# Altium integrated library Capacitor - Aluminium TH.IntLib: 4591 symbols (part 51 of 68)
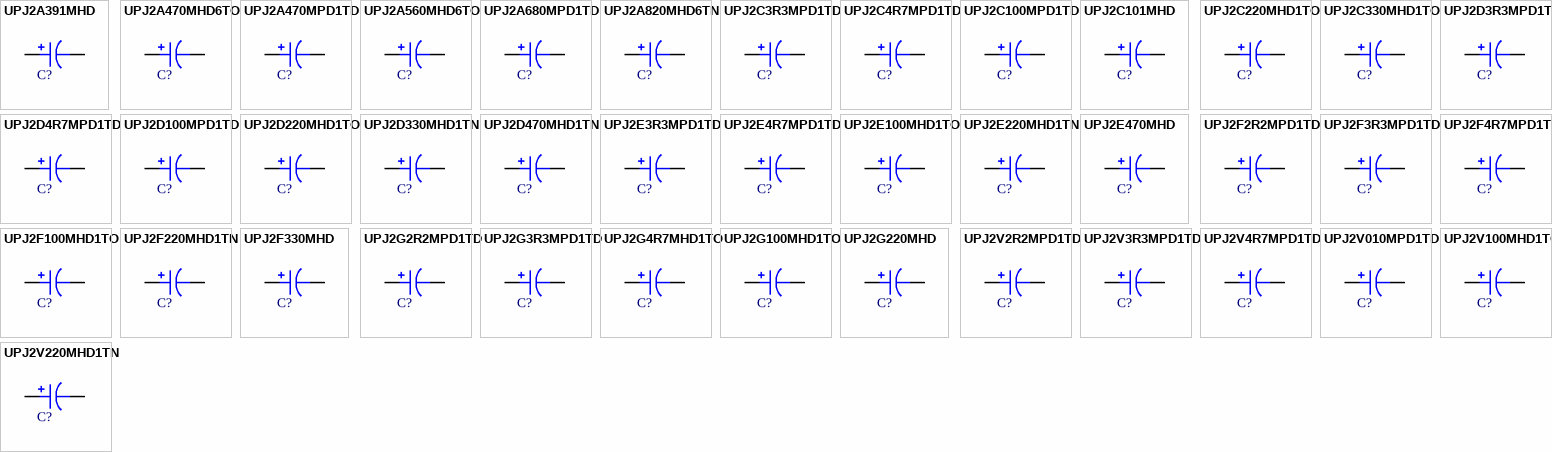
[diagram p164: symbols UPJ2A391MHD to UPJ2V220MHD1TN]

## UPJ2A391MHD
designator C?, comment 390uF  (value not drawn)
CAP ALUM 390UF 20% 100V RADIAL; Part Number: UPJ2A391MHD; Manufacturer: Nichicon; TemperatureRange: -55C ~ 105C; Type: Polar; Ripple Current: 1.34A @ 120Hz; Impedance: 53 mOhm; Value: 390uF; PartId: 27324; Supplier 1: Digi-Key; Supplier Part Number 1: 493-5566-ND; ComponentLink1Description: Datasheet; ComponentLink1URL: http://nichicon-us.com/english/products/pdfs/e-upj.pdf; ComponentLink2Description: Digi-Key Listing; ComponentLink2URL: https://www.digikey.com/product-detail/en/nichicon/UPJ2A391MHD/493-5566-ND/2599370; Tolerance: 20%; Voltage: 100V; Price: 1.54; Device Package: Radial, Can, 16mm
footprint CAP AL TH D16 L7.5 H37
pins: 1, 2

## UPJ2A470MHD6TO
designator C?, comment 47uF  (value not drawn)
CAP ALUM 47UF 20% 100V RADIAL; Part Number: UPJ2A470MHD6TO; Manufacturer: Nichicon; TemperatureRange: -55C ~ 105C; Type: Polar; Ripple Current: 239mA @ 120Hz; Impedance: 310 mOhm; Value: 47uF; PartId: 22743; Supplier 1: Digi-Key; Supplier Part Number 1: 493-5137-1-ND; ComponentLink1Description: Datasheet; ComponentLink1URL: http://nichicon-us.com/english/products/pdfs/e-upj.pdf; ComponentLink2Description: Digi-Key Listing; ComponentLink2URL: https://www.digikey.com/product-detail/en/nichicon/UPJ2A470MHD6TO/493-5137-1-ND/3129474; Tolerance: 20%; Voltage: 100V; Price: 0; Device Package: Radial, Can, 12.5mm
footprint CAP AL TH D12.5 L5 H16.5
pins: 1, 2

## UPJ2A470MPD1TD
designator C?, comment 47uF  (value not drawn)
CAP ALUM 47UF 20% 100V RADIAL; Part Number: UPJ2A470MPD1TD; Manufacturer: Nichicon; TemperatureRange: -55C ~ 105C; Type: Polar; Ripple Current: 252mA @ 120Hz; Impedance: 280 mOhm; Value: 47uF; PartId: 25748; Supplier 1: Digi-Key; Supplier Part Number 1: 493-11915-3-ND; ComponentLink1Description: Datasheet; ComponentLink1URL: http://nichicon-us.com/english/products/pdfs/e-upj.pdf; ComponentLink2Description: Digi-Key Listing; ComponentLink2URL: https://www.digikey.com/product-detail/en/nichicon/UPJ2A470MPD1TD/493-11915-3-ND/4321058; Tolerance: 20%; Voltage: 100V; Price: 0.2004; Device Package: Radial, Can, 10mm
footprint CAP AL TH D10 L5 H22
pins: 1, 2

## UPJ2A560MHD6TO
designator C?, comment 56uF  (value not drawn)
CAP ALUM 56UF 20% 100V RADIAL; Part Number: UPJ2A560MHD6TO; Manufacturer: Nichicon; TemperatureRange: -55C ~ 105C; Type: Polar; Ripple Current: 258mA @ 120Hz; Impedance: 270 mOhm; Value: 56uF; PartId: 22744; Supplier 1: Digi-Key; Supplier Part Number 1: 493-5139-1-ND; ComponentLink1Description: Datasheet; ComponentLink1URL: http://nichicon-us.com/english/products/pdfs/e-upj.pdf; ComponentLink2Description: Digi-Key Listing; ComponentLink2URL: https://www.digikey.com/product-detail/en/nichicon/UPJ2A560MHD6TO/493-5139-1-ND/3129476; Tolerance: 20%; Voltage: 100V; Price: 0; Device Package: Radial, Can, 12.5mm
footprint CAP AL TH D12.5 L5 H16.5
pins: 1, 2

## UPJ2A680MPD1TD
designator C?, comment 68uF  (value not drawn)
CAP ALUM 68UF 20% 100V RADIAL; Part Number: UPJ2A680MPD1TD; Manufacturer: Nichicon; TemperatureRange: -55C ~ 105C; Type: Polar; Ripple Current: 326mA @ 120Hz; Impedance: 210 mOhm; Value: 68uF; PartId: 26014; Supplier 1: Digi-Key; Supplier Part Number 1: 493-5140-3-ND; ComponentLink1Description: Datasheet; ComponentLink1URL: http://nichicon-us.com/english/products/pdfs/e-upj.pdf; ComponentLink2Description: Digi-Key Listing; ComponentLink2URL: https://www.digikey.com/product-detail/en/nichicon/UPJ2A680MPD1TD/493-5140-3-ND/3130145; Tolerance: 20%; Voltage: 100V; Price: 0.3068; Device Package: Radial, Can, 10mm
footprint CAP AL TH D10 L5 H30
pins: 1, 2

## UPJ2A820MHD6TN
designator C?, comment 82uF  (value not drawn)
CAP ALUM 82UF 20% 100V RADIAL; Part Number: UPJ2A820MHD6TN; Manufacturer: Nichicon; TemperatureRange: -55C ~ 105C; Type: Polar; Ripple Current: 433mA @ 120Hz; Impedance: 190 mOhm; Value: 82uF; PartId: 26250; Supplier 1: Digi-Key; Supplier Part Number 1: 493-5142-3-ND; ComponentLink1Description: Datasheet; ComponentLink1URL: http://nichicon-us.com/english/products/pdfs/e-upj.pdf; ComponentLink2Description: Digi-Key Listing; ComponentLink2URL: https://www.digikey.com/product-detail/en/nichicon/UPJ2A820MHD6TN/493-5142-3-ND/3130147; Tolerance: 20%; Voltage: 100V; Price: 0.5226; Device Package: Radial, Can, 16mm
footprint CAP AL TH D16 L7.5 H16.5
pins: 1, 2

## UPJ2C3R3MPD1TD
designator C?, comment 3.3uF  (value not drawn)
CAP ALUM 3.3UF 20% 160V RADIAL; Part Number: UPJ2C3R3MPD1TD; Manufacturer: Nichicon; TemperatureRange: -40C ~ 105C; Type: Polar; Ripple Current: 50mA @ 120Hz; Value: 3.3uF; PartId: 24589; Supplier 1: Digi-Key; Supplier Part Number 1: 493-5147-3-ND; ComponentLink1Description: Datasheet; ComponentLink1URL: http://nichicon-us.com/english/products/pdfs/e-upj.pdf; ComponentLink2Description: Digi-Key Listing; ComponentLink2URL: https://www.digikey.com/product-detail/en/nichicon/UPJ2C3R3MPD1TD/493-5147-3-ND/3130152; Tolerance: 20%; Voltage: 160V; Price: 0.1712; Device Package: Radial, Can, 10mm
footprint CAP AL TH D10 L5 H14.5
pins: 1, 2

## UPJ2C4R7MPD1TD
designator C?, comment 4.7uF  (value not drawn)
CAP ALUM 4.7UF 20% 160V RADIAL; Part Number: UPJ2C4R7MPD1TD; Manufacturer: Nichicon; TemperatureRange: -40C ~ 105C; Type: Polar; Ripple Current: 57mA @ 120Hz; Value: 4.7uF; PartId: 24590; Supplier 1: Digi-Key; Supplier Part Number 1: 493-11862-3-ND; ComponentLink1Description: Datasheet; ComponentLink1URL: http://nichicon-us.com/english/products/pdfs/e-upj.pdf; ComponentLink2Description: Digi-Key Listing; ComponentLink2URL: https://www.digikey.com/product-detail/en/nichicon/UPJ2C4R7MPD1TD/493-11862-3-ND/4321005; Tolerance: 20%; Voltage: 160V; Price: 0.1718; Device Package: Radial, Can, 10mm
footprint CAP AL TH D10 L5 H14.5
pins: 1, 2

## UPJ2C100MPD1TD
designator C?, comment 10uF  (value not drawn)
CAP ALUM 10UF 20% 160V RADIAL; Part Number: UPJ2C100MPD1TD; Manufacturer: Nichicon; TemperatureRange: -40C ~ 105C; Type: Polar; Ripple Current: 90mA @ 120Hz; Value: 10uF; PartId: 25076; Supplier 1: Digi-Key; Supplier Part Number 1: 493-5146-3-ND; ComponentLink1Description: Datasheet; ComponentLink1URL: http://nichicon-us.com/english/products/pdfs/e-upj.pdf; ComponentLink2Description: Digi-Key Listing; ComponentLink2URL: https://www.digikey.com/product-detail/en/nichicon/UPJ2C100MPD1TD/493-5146-3-ND/3130151; Tolerance: 20%; Voltage: 160V; Price: 0.232; Device Package: Radial, Can, 10mm
footprint CAP AL TH D10 L5 H17.5
pins: 1, 2

## UPJ2C101MHD
designator C?, comment 100uF  (value not drawn)
CAP ALUM 100UF 20% 160V RADIAL; Part Number: UPJ2C101MHD; Manufacturer: Nichicon; TemperatureRange: -40C ~ 105C; Type: Polar; Ripple Current: 330mA @ 120Hz; Value: 100uF; PartId: 27328; Supplier 1: Digi-Key; Supplier Part Number 1: 493-5569-ND; ComponentLink1Description: Datasheet; ComponentLink1URL: http://nichicon-us.com/english/products/pdfs/e-upj.pdf; ComponentLink2Description: Digi-Key Listing; ComponentLink2URL: https://www.digikey.com/product-detail/en/nichicon/UPJ2C101MHD/493-5569-ND/2599390; Tolerance: 20%; Voltage: 160V; Price: 1.58; Device Package: Radial, Can, 16mm
footprint CAP AL TH D16 L7.5 H37
pins: 1, 2

## UPJ2C220MHD1TO
designator C?, comment 22uF  (value not drawn)
CAP ALUM 22UF 20% 160V RADIAL; Part Number: UPJ2C220MHD1TO; Manufacturer: Nichicon; TemperatureRange: -40C ~ 105C; Type: Polar; Ripple Current: 140mA @ 120Hz; Value: 22uF; PartId: 23159; Supplier 1: Digi-Key; Supplier Part Number 1: 493-12074-3-ND; ComponentLink1Description: Datasheet; ComponentLink1URL: http://nichicon-us.com/english/products/pdfs/e-upj.pdf; ComponentLink2Description: Digi-Key Listing; ComponentLink2URL: https://www.digikey.com/product-detail/en/nichicon/UPJ2C220MHD1TO/493-12074-3-ND/4321217; Tolerance: 20%; Voltage: 160V; Price: 0.3258; Device Package: Radial, Can, 12.5mm
footprint CAP AL TH D12.5 L5 H22
pins: 1, 2

## UPJ2C330MHD1TO
designator C?, comment 33uF  (value not drawn)
CAP ALUM 33UF 20% 160V RADIAL; Part Number: UPJ2C330MHD1TO; Manufacturer: Nichicon; TemperatureRange: -40C ~ 105C; Type: Polar; Ripple Current: 175mA @ 120Hz; Value: 33uF; PartId: 24067; Supplier 1: Digi-Key; Supplier Part Number 1: 493-12226-1-ND; ComponentLink1Description: Datasheet; ComponentLink1URL: http://nichicon-us.com/english/products/pdfs/e-upj.pdf; ComponentLink2Description: Digi-Key Listing; ComponentLink2URL: https://www.digikey.com/product-detail/en/nichicon/UPJ2C330MHD1TO/493-12226-1-ND/4319521; Tolerance: 20%; Voltage: 160V; Price: 1.19; Device Package: Radial, Can, 12.5mm
footprint CAP AL TH D12.5 L5 H27
pins: 1, 2

## UPJ2D3R3MPD1TD
designator C?, comment 3.3uF  (value not drawn)
CAP ALUM 3.3UF 20% 200V RADIAL; Part Number: UPJ2D3R3MPD1TD; Manufacturer: Nichicon; TemperatureRange: -40C ~ 105C; Type: Polar; Ripple Current: 50mA @ 120Hz; Value: 3.3uF; PartId: 24591; Supplier 1: Digi-Key; Supplier Part Number 1: 493-5153-3-ND; ComponentLink1Description: Datasheet; ComponentLink1URL: http://nichicon-us.com/english/products/pdfs/e-upj.pdf; ComponentLink2Description: Digi-Key Listing; ComponentLink2URL: https://www.digikey.com/product-detail/en/nichicon/UPJ2D3R3MPD1TD/493-5153-3-ND/3130158; Tolerance: 20%; Voltage: 200V; Price: 0.1718; Device Package: Radial, Can, 10mm
footprint CAP AL TH D10 L5 H14.5
pins: 1, 2

## UPJ2D4R7MPD1TD
designator C?, comment 4.7uF  (value not drawn)
CAP ALUM 4.7UF 20% 200V RADIAL; Part Number: UPJ2D4R7MPD1TD; Manufacturer: Nichicon; TemperatureRange: -40C ~ 105C; Type: Polar; Ripple Current: 60mA @ 120Hz; Value: 4.7uF; PartId: 25074; Supplier 1: Digi-Key; Supplier Part Number 1: 493-5155-3-ND; ComponentLink1Description: Datasheet; ComponentLink1URL: http://nichicon-us.com/english/products/pdfs/e-upj.pdf; ComponentLink2Description: Digi-Key Listing; ComponentLink2URL: https://www.digikey.com/product-detail/en/nichicon/UPJ2D4R7MPD1TD/493-5155-3-ND/3130160; Tolerance: 20%; Voltage: 200V; Price: 0.232; Device Package: Radial, Can, 10mm
footprint CAP AL TH D10 L5 H17.5
pins: 1, 2

## UPJ2D100MPD1TD
designator C?, comment 10uF  (value not drawn)
CAP ALUM 10UF 20% 200V RADIAL; Part Number: UPJ2D100MPD1TD; Manufacturer: Nichicon; TemperatureRange: -40C ~ 105C; Type: Polar; Ripple Current: 95mA @ 120Hz; Value: 10uF; PartId: 25459; Supplier 1: Digi-Key; Supplier Part Number 1: 493-5149-3-ND; ComponentLink1Description: Datasheet; ComponentLink1URL: http://nichicon-us.com/english/products/pdfs/e-upj.pdf; ComponentLink2Description: Digi-Key Listing; ComponentLink2URL: https://www.digikey.com/product-detail/en/nichicon/UPJ2D100MPD1TD/493-5149-3-ND/3130154; Tolerance: 20%; Voltage: 200V; Price: 0.253; Device Package: Radial, Can, 10mm
footprint CAP AL TH D10 L5 H22
pins: 1, 2

## UPJ2D220MHD1TO
designator C?, comment 22uF  (value not drawn)
CAP ALUM 22UF 20% 200V RADIAL; Part Number: UPJ2D220MHD1TO; Manufacturer: Nichicon; TemperatureRange: -40C ~ 105C; Type: Polar; Ripple Current: 145mA @ 120Hz; Value: 22uF; PartId: 23636; Supplier 1: Digi-Key; Supplier Part Number 1: 493-5150-3-ND; ComponentLink1Description: Datasheet; ComponentLink1URL: http://nichicon-us.com/english/products/pdfs/e-upj.pdf; ComponentLink2Description: Digi-Key Listing; ComponentLink2URL: https://www.digikey.com/product-detail/en/nichicon/UPJ2D220MHD1TO/493-5150-3-ND/3130155; Tolerance: 20%; Voltage: 200V; Price: 0.4756; Device Package: Radial, Can, 12.5mm
footprint CAP AL TH D12.5 L5 H26.5
pins: 1, 2

## UPJ2D330MHD1TN
designator C?, comment 33uF  (value not drawn)
CAP ALUM 33UF 20% 200V RADIAL; Part Number: UPJ2D330MHD1TN; Manufacturer: Nichicon; TemperatureRange: -40C ~ 105C; Type: Polar; Ripple Current: 180mA @ 120Hz; Value: 33uF; PartId: 26514; Supplier 1: Digi-Key; Supplier Part Number 1: 493-5152-3-ND; ComponentLink1Description: Datasheet; ComponentLink1URL: http://nichicon-us.com/english/products/pdfs/e-upj.pdf; ComponentLink2Description: Digi-Key Listing; ComponentLink2URL: https://www.digikey.com/product-detail/en/nichicon/UPJ2D330MHD1TN/493-5152-3-ND/3130157; Tolerance: 20%; Voltage: 200V; Price: 0.5562; Device Package: Radial, Can, 16mm
footprint CAP AL TH D16 L7.5 H26.5
pins: 1, 2

## UPJ2D470MHD1TN
designator C?, comment 47uF  (value not drawn)
CAP ALUM 47UF 20% 200V RADIAL; Part Number: UPJ2D470MHD1TN; Manufacturer: Nichicon; TemperatureRange: -40C ~ 105C; Type: Polar; Ripple Current: 220mA @ 120Hz; Value: 47uF; PartId: 26516; Supplier 1: Digi-Key; Supplier Part Number 1: 493-5154-3-ND; ComponentLink1Description: Datasheet; ComponentLink1URL: http://nichicon-us.com/english/products/pdfs/e-upj.pdf; ComponentLink2Description: Digi-Key Listing; ComponentLink2URL: https://www.digikey.com/product-detail/en/nichicon/UPJ2D470MHD1TN/493-5154-3-ND/3130159; Tolerance: 20%; Voltage: 200V; Price: 0.5956; Device Package: Radial, Can, 16mm
footprint CAP AL TH D16 L7.5 H26.5
pins: 1, 2

## UPJ2E3R3MPD1TD
designator C?, comment 3.3uF  (value not drawn)
CAP ALUM 3.3UF 20% 250V RADIAL; Part Number: UPJ2E3R3MPD1TD; Manufacturer: Nichicon; TemperatureRange: -40C ~ 105C; Type: Polar; Ripple Current: 52mA @ 120Hz; Value: 3.3uF; PartId: 25062; Supplier 1: Digi-Key; Supplier Part Number 1: 493-5159-3-ND; ComponentLink1Description: Datasheet; ComponentLink1URL: http://nichicon-us.com/english/products/pdfs/e-upj.pdf; ComponentLink2Description: Digi-Key Listing; ComponentLink2URL: https://www.digikey.com/product-detail/en/nichicon/UPJ2E3R3MPD1TD/493-5159-3-ND/3130164; Tolerance: 20%; Voltage: 250V; Price: 0.2188; Device Package: Radial, Can, 10mm
footprint CAP AL TH D10 L5 H17.5
pins: 1, 2

## UPJ2E4R7MPD1TD
designator C?, comment 4.7uF  (value not drawn)
CAP ALUM 4.7UF 20% 250V RADIAL; Part Number: UPJ2E4R7MPD1TD; Manufacturer: Nichicon; TemperatureRange: -40C ~ 105C; Type: Polar; Ripple Current: 60mA @ 120Hz; Value: 4.7uF; PartId: 25073; Supplier 1: Digi-Key; Supplier Part Number 1: 493-5160-3-ND; ComponentLink1Description: Datasheet; ComponentLink1URL: http://nichicon-us.com/english/products/pdfs/e-upj.pdf; ComponentLink2Description: Digi-Key Listing; ComponentLink2URL: https://www.digikey.com/product-detail/en/nichicon/UPJ2E4R7MPD1TD/493-5160-3-ND/3130165; Tolerance: 20%; Voltage: 250V; Price: 0.232; Device Package: Radial, Can, 10mm
footprint CAP AL TH D10 L5 H17.5
pins: 1, 2

## UPJ2E100MHD1TO
designator C?, comment 10uF  (value not drawn)
CAP ALUM 10UF 20% 250V RADIAL; Part Number: UPJ2E100MHD1TO; Manufacturer: Nichicon; TemperatureRange: -40C ~ 105C; Type: Polar; Ripple Current: 98mA @ 120Hz; Value: 10uF; PartId: 22973; Supplier 1: Digi-Key; Supplier Part Number 1: 493-5157-1-ND; ComponentLink1Description: Datasheet; ComponentLink1URL: http://nichicon-us.com/english/products/pdfs/e-upj.pdf; ComponentLink2Description: Digi-Key Listing; ComponentLink2URL: https://www.digikey.com/product-detail/en/nichicon/UPJ2E100MHD1TO/493-5157-1-ND/3129494; Tolerance: 20%; Voltage: 250V; Price: 0; Device Package: Radial, Can, 12.5mm
footprint CAP AL TH D12.5 L5 H21.5
pins: 1, 2

## UPJ2E220MHD1TN
designator C?, comment 22uF  (value not drawn)
CAP ALUM 22UF 20% 250V RADIAL; Part Number: UPJ2E220MHD1TN; Manufacturer: Nichicon; TemperatureRange: -40C ~ 105C; Type: Polar; Ripple Current: 150mA @ 120Hz; Value: 22uF; PartId: 26511; Supplier 1: Digi-Key; Supplier Part Number 1: 493-5158-3-ND; ComponentLink1Description: Datasheet; ComponentLink1URL: http://nichicon-us.com/english/products/pdfs/e-upj.pdf; ComponentLink2Description: Digi-Key Listing; ComponentLink2URL: https://www.digikey.com/product-detail/en/nichicon/UPJ2E220MHD1TN/493-5158-3-ND/3130163; Tolerance: 20%; Voltage: 250V; Price: 0.5386; Device Package: Radial, Can, 16mm
footprint CAP AL TH D16 L7.5 H26.5
pins: 1, 2

## UPJ2E470MHD
designator C?, comment 47uF  (value not drawn)
CAP ALUM 47UF 20% 250V RADIAL; Part Number: UPJ2E470MHD; Manufacturer: Nichicon; TemperatureRange: -40C ~ 105C; Type: Polar; Ripple Current: 225mA; Value: 47uF; PartId: 27055; Supplier 1: Digi-Key; Supplier Part Number 1: 493-11108-ND; ComponentLink1Description: Datasheet; ComponentLink1URL: http://nichicon-us.com/english/products/pdfs/e-upj.pdf; ComponentLink2Description: Digi-Key Listing; ComponentLink2URL: https://www.digikey.com/product-detail/en/nichicon/UPJ2E470MHD/493-11108-ND/2599413; Tolerance: 20%; Voltage: 250V; Price: 1.58; Device Package: Radial, Can, 16mm
footprint CAP AL TH D16 L7.5 H33.5
pins: 1, 2

## UPJ2F2R2MPD1TD
designator C?, comment 2.2uF  (value not drawn)
CAP ALUM 2.2UF 20% 315V RADIAL; Part Number: UPJ2F2R2MPD1TD; Manufacturer: Nichicon; TemperatureRange: -40C ~ 105C; Type: Polar; Ripple Current: 32mA @ 120Hz; Value: 2.2uF; PartId: 24599; Supplier 1: Digi-Key; Supplier Part Number 1: 493-5164-3-ND; ComponentLink1Description: Datasheet; ComponentLink1URL: http://nichicon-us.com/english/products/pdfs/e-upj.pdf; ComponentLink2Description: Digi-Key Listing; ComponentLink2URL: https://www.digikey.com/product-detail/en/nichicon/UPJ2F2R2MPD1TD/493-5164-3-ND/3130169; Tolerance: 20%; Voltage: 315V; Price: 0.1736; Device Package: Radial, Can, 10mm
footprint CAP AL TH D10 L5 H14.5
pins: 1, 2

## UPJ2F3R3MPD1TD
designator C?, comment 3.3uF  (value not drawn)
CAP ALUM 3.3UF 20% 315V RADIAL; Part Number: UPJ2F3R3MPD1TD; Manufacturer: Nichicon; TemperatureRange: -40C ~ 105C; Type: Polar; Ripple Current: 52mA @ 120Hz; Value: 3.3uF; PartId: 25084; Supplier 1: Digi-Key; Supplier Part Number 1: 493-5165-3-ND; ComponentLink1Description: Datasheet; ComponentLink1URL: http://nichicon-us.com/english/products/pdfs/e-upj.pdf; ComponentLink2Description: Digi-Key Listing; ComponentLink2URL: https://www.digikey.com/product-detail/en/nichicon/UPJ2F3R3MPD1TD/493-5165-3-ND/3130170; Tolerance: 20%; Voltage: 315V; Price: 0.2428; Device Package: Radial, Can, 10mm
footprint CAP AL TH D10 L5 H17.5
pins: 1, 2

## UPJ2F4R7MPD1TD
designator C?, comment 4.7uF  (value not drawn)
CAP ALUM 4.7UF 20% 315V RADIAL; Part Number: UPJ2F4R7MPD1TD; Manufacturer: Nichicon; TemperatureRange: -40C ~ 105C; Type: Polar; Ripple Current: 65mA @ 120Hz; Value: 4.7uF; PartId: 25462; Supplier 1: Digi-Key; Supplier Part Number 1: 493-5166-3-ND; ComponentLink1Description: Datasheet; ComponentLink1URL: http://nichicon-us.com/english/products/pdfs/e-upj.pdf; ComponentLink2Description: Digi-Key Listing; ComponentLink2URL: https://www.digikey.com/product-detail/en/nichicon/UPJ2F4R7MPD1TD/493-5166-3-ND/3130171; Tolerance: 20%; Voltage: 315V; Price: 0.2576; Device Package: Radial, Can, 10mm
footprint CAP AL TH D10 L5 H22
pins: 1, 2

## UPJ2F100MHD1TO
designator C?, comment 10uF  (value not drawn)
CAP ALUM 10UF 20% 315V RADIAL; Part Number: UPJ2F100MHD1TO; Manufacturer: Nichicon; TemperatureRange: -40C ~ 105C; Type: Polar; Ripple Current: 98mA @ 120Hz; Value: 10uF; PartId: 22974; Supplier 1: Digi-Key; Supplier Part Number 1: 493-5162-1-ND; ComponentLink1Description: Datasheet; ComponentLink1URL: http://nichicon-us.com/english/products/pdfs/e-upj.pdf; ComponentLink2Description: Digi-Key Listing; ComponentLink2URL: https://www.digikey.com/product-detail/en/nichicon/UPJ2F100MHD1TO/493-5162-1-ND/3129499; Tolerance: 20%; Voltage: 315V; Price: 0; Device Package: Radial, Can, 12.5mm
footprint CAP AL TH D12.5 L5 H21.5
pins: 1, 2

## UPJ2F220MHD1TN
designator C?, comment 22uF  (value not drawn)
CAP ALUM 22UF 20% 315V RADIAL; Part Number: UPJ2F220MHD1TN; Manufacturer: Nichicon; TemperatureRange: -40C ~ 105C; Type: Polar; Ripple Current: 150mA @ 120Hz; Value: 22uF; PartId: 26512; Supplier 1: Digi-Key; Supplier Part Number 1: 493-5163-3-ND; ComponentLink1Description: Datasheet; ComponentLink1URL: http://nichicon-us.com/english/products/pdfs/e-upj.pdf; ComponentLink2Description: Digi-Key Listing; ComponentLink2URL: https://www.digikey.com/product-detail/en/nichicon/UPJ2F220MHD1TN/493-5163-3-ND/3130168; Tolerance: 20%; Voltage: 315V; Price: 0.5386; Device Package: Radial, Can, 16mm
footprint CAP AL TH D16 L7.5 H26.5
pins: 1, 2

## UPJ2F330MHD
designator C?, comment 33uF  (value not drawn)
CAP ALUM 33UF 20% 315V RADIAL; Part Number: UPJ2F330MHD; Manufacturer: Nichicon; TemperatureRange: -40C ~ 105C; Type: Polar; Ripple Current: 185mA @ 120Hz; Value: 33uF; PartId: 27045; Supplier 1: Digi-Key; Supplier Part Number 1: 493-5572-ND; ComponentLink1Description: Datasheet; ComponentLink1URL: http://nichicon-us.com/english/products/pdfs/e-upj.pdf; ComponentLink2Description: Digi-Key Listing; ComponentLink2URL: https://www.digikey.com/product-detail/en/nichicon/UPJ2F330MHD/493-5572-ND/2599419; Tolerance: 20%; Voltage: 315V; Price: 1.55; Device Package: Radial, Can, 16mm
footprint CAP AL TH D16 L7.5 H33.5
pins: 1, 2

## UPJ2G2R2MPD1TD
designator C?, comment 2.2uF  (value not drawn)
CAP ALUM 2.2UF 20% 400V RADIAL; Part Number: UPJ2G2R2MPD1TD; Manufacturer: Nichicon; TemperatureRange: -40C ~ 105C; Type: Polar; Ripple Current: 28mA @ 120Hz; Value: 2.2uF; PartId: 25088; Supplier 1: Digi-Key; Supplier Part Number 1: 493-5167-3-ND; ComponentLink1Description: Datasheet; ComponentLink1URL: http://nichicon-us.com/english/products/pdfs/e-upj.pdf; ComponentLink2Description: Digi-Key Listing; ComponentLink2URL: https://www.digikey.com/product-detail/en/nichicon/UPJ2G2R2MPD1TD/493-5167-3-ND/3130172; Tolerance: 20%; Voltage: 400V; Price: 0.253; Device Package: Radial, Can, 10mm
footprint CAP AL TH D10 L5 H17.5
pins: 1, 2

## UPJ2G3R3MPD1TD
designator C?, comment 3.3uF  (value not drawn)
CAP ALUM 3.3UF 20% 400V RADIAL; Part Number: UPJ2G3R3MPD1TD; Manufacturer: Nichicon; TemperatureRange: -40C ~ 105C; Type: Polar; Ripple Current: 47mA @ 120Hz; Value: 3.3uF; PartId: 25496; Supplier 1: Digi-Key; Supplier Part Number 1: 493-5168-3-ND; ComponentLink1Description: Datasheet; ComponentLink1URL: http://nichicon-us.com/english/products/pdfs/e-upj.pdf; ComponentLink2Description: Digi-Key Listing; ComponentLink2URL: https://www.digikey.com/product-detail/en/nichicon/UPJ2G3R3MPD1TD/493-5168-3-ND/3130173; Tolerance: 20%; Voltage: 400V; Price: 0.4397; Device Package: Radial, Can, 10mm
footprint CAP AL TH D10 L5 H22
pins: 1, 2

## UPJ2G4R7MHD1TO
designator C?, comment 4.7uF  (value not drawn)
CAP ALUM 4.7UF 20% 400V RADIAL; Part Number: UPJ2G4R7MHD1TO; Manufacturer: Nichicon; TemperatureRange: -40C ~ 105C; Type: Polar; Ripple Current: 55mA @ 120Hz; Value: 4.7uF; PartId: 23004; Supplier 1: Digi-Key; Supplier Part Number 1: 493-5169-1-ND; ComponentLink1Description: Datasheet; ComponentLink1URL: http://nichicon-us.com/english/products/pdfs/e-upj.pdf; ComponentLink2Description: Digi-Key Listing; ComponentLink2URL: https://www.digikey.com/product-detail/en/nichicon/UPJ2G4R7MHD1TO/493-5169-1-ND/3129506; Tolerance: 20%; Voltage: 400V; Price: 0; Device Package: Radial, Can, 12.5mm
footprint CAP AL TH D12.5 L5 H21.5
pins: 1, 2

## UPJ2G100MHD1TO
designator C?, comment 10uF  (value not drawn)
CAP ALUM 10UF 20% 400V RADIAL; Part Number: UPJ2G100MHD1TO; Manufacturer: Nichicon; TemperatureRange: -40C ~ 105C; Type: Polar; Ripple Current: 85mA @ 120Hz; Value: 10uF; PartId: 24103; Supplier 1: Digi-Key; Supplier Part Number 1: 493-12269-1-ND; ComponentLink1Description: Datasheet; ComponentLink1URL: http://nichicon-us.com/english/products/pdfs/e-upj.pdf; ComponentLink2Description: Digi-Key Listing; ComponentLink2URL: https://www.digikey.com/product-detail/en/nichicon/UPJ2G100MHD1TO/493-12269-1-ND/4319527; Tolerance: 20%; Voltage: 400V; Price: 1.33; Device Package: Radial, Can, 12.5mm
footprint CAP AL TH D12.5 L5 H27
pins: 1, 2

## UPJ2G220MHD
designator C?, comment 22uF  (value not drawn)
CAP ALUM 22UF 20% 400V RADIAL; Part Number: UPJ2G220MHD; Manufacturer: Nichicon; TemperatureRange: -40C ~ 105C; Type: Polar; Ripple Current: 130mA @ 120Hz; Value: 22uF; PartId: 27122; Supplier 1: Digi-Key; Supplier Part Number 1: 493-5574-ND; ComponentLink1Description: Datasheet; ComponentLink1URL: http://nichicon-us.com/english/products/pdfs/e-upj.pdf; ComponentLink2Description: Digi-Key Listing; ComponentLink2URL: https://www.digikey.com/product-detail/en/nichicon/UPJ2G220MHD/493-5574-ND/2599425; Tolerance: 20%; Voltage: 400V; Price: 1.75; Device Package: Radial, Can, 16mm
footprint CAP AL TH D16 L7.5 H33.5
pins: 1, 2

## UPJ2V2R2MPD1TD
designator C?, comment 2.2uF  (value not drawn)
CAP ALUM 2.2UF 20% 350V RADIAL; Part Number: UPJ2V2R2MPD1TD; Manufacturer: Nichicon; TemperatureRange: -40C ~ 105C; Type: Polar; Ripple Current: 34mA @ 120Hz; Value: 2.2uF; PartId: 25068; Supplier 1: Digi-Key; Supplier Part Number 1: 493-5173-3-ND; ComponentLink1Description: Datasheet; ComponentLink1URL: http://nichicon-us.com/english/products/pdfs/e-upj.pdf; ComponentLink2Description: Digi-Key Listing; ComponentLink2URL: https://www.digikey.com/product-detail/en/nichicon/UPJ2V2R2MPD1TD/493-5173-3-ND/3130178; Tolerance: 20%; Voltage: 350V; Price: 0.227; Device Package: Radial, Can, 10mm
footprint CAP AL TH D10 L5 H17.5
pins: 1, 2

## UPJ2V3R3MPD1TD
designator C?, comment 3.3uF  (value not drawn)
CAP ALUM 3.3UF 20% 350V RADIAL; Part Number: UPJ2V3R3MPD1TD; Manufacturer: Nichicon; TemperatureRange: -40C ~ 105C; Type: Polar; Ripple Current: 54mA @ 120Hz; Value: 3.3uF; PartId: 25458; Supplier 1: Digi-Key; Supplier Part Number 1: 493-5174-3-ND; ComponentLink1Description: Datasheet; ComponentLink1URL: http://nichicon-us.com/english/products/pdfs/e-upj.pdf; ComponentLink2Description: Digi-Key Listing; ComponentLink2URL: https://www.digikey.com/product-detail/en/nichicon/UPJ2V3R3MPD1TD/493-5174-3-ND/3130179; Tolerance: 20%; Voltage: 350V; Price: 0.2494; Device Package: Radial, Can, 10mm
footprint CAP AL TH D10 L5 H22
pins: 1, 2

## UPJ2V4R7MPD1TD
designator C?, comment 4.7uF  (value not drawn)
CAP ALUM 4.7UF 20% 350V RADIAL; Part Number: UPJ2V4R7MPD1TD; Manufacturer: Nichicon; TemperatureRange: -40C ~ 105C; Type: Polar; Ripple Current: 65mA @ 120Hz; Value: 4.7uF; PartId: 25464; Supplier 1: Digi-Key; Supplier Part Number 1: 493-5175-3-ND; ComponentLink1Description: Datasheet; ComponentLink1URL: http://nichicon-us.com/english/products/pdfs/e-upj.pdf; ComponentLink2Description: Digi-Key Listing; ComponentLink2URL: https://www.digikey.com/product-detail/en/nichicon/UPJ2V4R7MPD1TD/493-5175-3-ND/3130180; Tolerance: 20%; Voltage: 350V; Price: 0.2584; Device Package: Radial, Can, 10mm
footprint CAP AL TH D10 L5 H22
pins: 1, 2

## UPJ2V010MPD1TD
designator C?, comment 1uF  (value not drawn)
CAP ALUM 1UF 20% 350V RADIAL; Part Number: UPJ2V010MPD1TD; Manufacturer: Nichicon; TemperatureRange: -40C ~ 105C; Type: Polar; Ripple Current: 21mA @ 120Hz; Value: 1uF; PartId: 24600; Supplier 1: Digi-Key; Supplier Part Number 1: 493-5170-3-ND; ComponentLink1Description: Datasheet; ComponentLink1URL: http://nichicon-us.com/english/products/pdfs/e-upj.pdf; ComponentLink2Description: Digi-Key Listing; ComponentLink2URL: https://www.digikey.com/product-detail/en/nichicon/UPJ2V010MPD1TD/493-5170-3-ND/3130175; Tolerance: 20%; Voltage: 350V; Price: 0.1756; Device Package: Radial, Can, 10mm
footprint CAP AL TH D10 L5 H14.5
pins: 1, 2

## UPJ2V100MHD1TO
designator C?, comment 10uF  (value not drawn)
CAP ALUM 10UF 20% 350V RADIAL; Part Number: UPJ2V100MHD1TO; Manufacturer: Nichicon; TemperatureRange: -40C ~ 105C; Type: Polar; Ripple Current: 100mA @ 120Hz; Value: 10uF; PartId: 23637; Supplier 1: Digi-Key; Supplier Part Number 1: 493-5171-3-ND; ComponentLink1Description: Datasheet; ComponentLink1URL: http://nichicon-us.com/english/products/pdfs/e-upj.pdf; ComponentLink2Description: Digi-Key Listing; ComponentLink2URL: https://www.digikey.com/product-detail/en/nichicon/UPJ2V100MHD1TO/493-5171-3-ND/3130176; Tolerance: 20%; Voltage: 350V; Price: 0.4789; Device Package: Radial, Can, 12.5mm
footprint CAP AL TH D12.5 L5 H26.5
pins: 1, 2

## UPJ2V220MHD1TN
designator C?, comment 22uF  (value not drawn)
CAP ALUM 22UF 20% 350V RADIAL; Part Number: UPJ2V220MHD1TN; Manufacturer: Nichicon; TemperatureRange: -40C ~ 105C; Type: Polar; Ripple Current: 150mA @ 120Hz; Value: 22uF; PartId: 26515; Supplier 1: Digi-Key; Supplier Part Number 1: 493-5172-3-ND; ComponentLink1Description: Datasheet; ComponentLink1URL: http://nichicon-us.com/english/products/pdfs/e-upj.pdf; ComponentLink2Description: Digi-Key Listing; ComponentLink2URL: https://www.digikey.com/product-detail/en/nichicon/UPJ2V220MHD1TN/493-5172-3-ND/3130177; Tolerance: 20%; Voltage: 350V; Price: 0.5896; Device Package: Radial, Can, 16mm
footprint CAP AL TH D16 L7.5 H26.5
pins: 1, 2

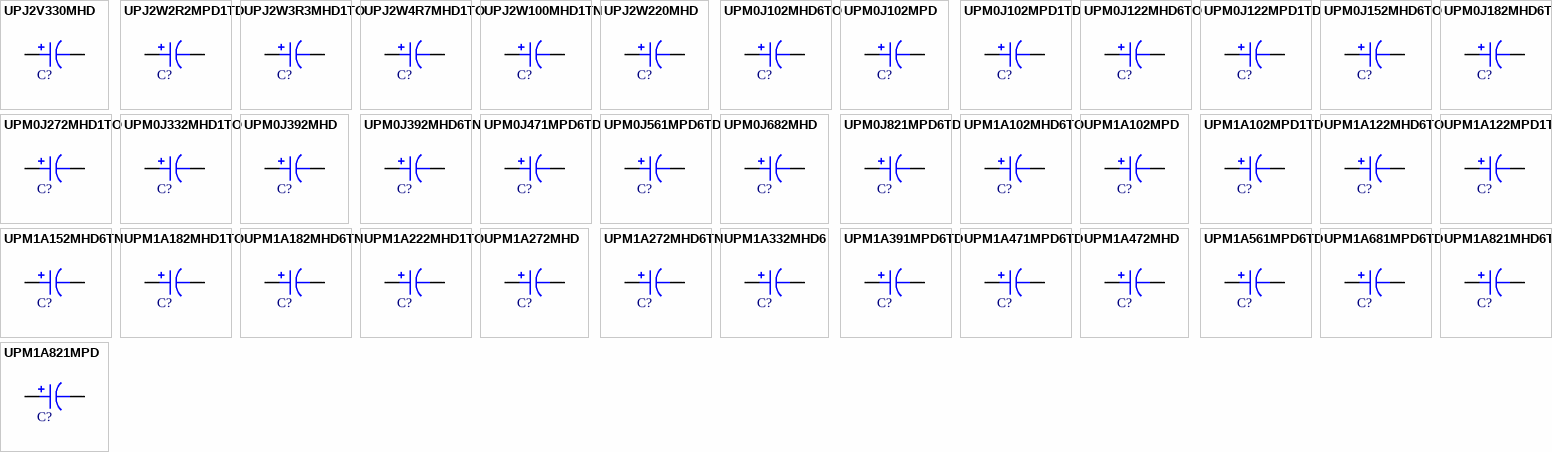
[diagram p85: symbols UPJ2V330MHD to UPM1A821MPD]

## UPJ2V330MHD
designator C?, comment 33uF  (value not drawn)
CAP ALUM 33UF 20% 350V RADIAL; Part Number: UPJ2V330MHD; Manufacturer: Nichicon; TemperatureRange: -40C ~ 105C; Type: Polar; Ripple Current: 190mA; Value: 33uF; PartId: 27359; Supplier 1: Digi-Key; Supplier Part Number 1: 493-11109-ND; ComponentLink1Description: Datasheet; ComponentLink1URL: http://nichicon-us.com/english/products/pdfs/e-upj.pdf; ComponentLink2Description: Digi-Key Listing; ComponentLink2URL: https://www.digikey.com/product-detail/en/nichicon/UPJ2V330MHD/493-11109-ND/2599434; Tolerance: 20%; Voltage: 350V; Price: 1.77; Device Package: Radial, Can, 16mm
footprint CAP AL TH D16 L7.5 H37
pins: 1, 2

## UPJ2W2R2MPD1TD
designator C?, comment 2.2uF  (value not drawn)
CAP ALUM 2.2UF 20% 450V RADIAL; Part Number: UPJ2W2R2MPD1TD; Manufacturer: Nichicon; TemperatureRange: -25C ~ 105C; Type: Polar; Ripple Current: 28mA @ 120Hz; Value: 2.2uF; PartId: 25481; Supplier 1: Digi-Key; Supplier Part Number 1: 493-5177-3-ND; ComponentLink1Description: Datasheet; ComponentLink1URL: http://nichicon-us.com/english/products/pdfs/e-upj.pdf; ComponentLink2Description: Digi-Key Listing; ComponentLink2URL: https://www.digikey.com/product-detail/en/nichicon/UPJ2W2R2MPD1TD/493-5177-3-ND/3130182; Tolerance: 20%; Voltage: 450V; Price: 0.3222; Device Package: Radial, Can, 10mm
footprint CAP AL TH D10 L5 H22
pins: 1, 2

## UPJ2W3R3MHD1TO
designator C?, comment 3.3uF  (value not drawn)
CAP ALUM 3.3UF 20% 450V RADIAL; Part Number: UPJ2W3R3MHD1TO; Manufacturer: Nichicon; TemperatureRange: -25C ~ 105C; Type: Polar; Ripple Current: 48mA @ 120Hz; Value: 3.3uF; PartId: 22997; Supplier 1: Digi-Key; Supplier Part Number 1: 493-5178-1-ND; ComponentLink1Description: Datasheet; ComponentLink1URL: http://nichicon-us.com/english/products/pdfs/e-upj.pdf; ComponentLink2Description: Digi-Key Listing; ComponentLink2URL: https://www.digikey.com/product-detail/en/nichicon/UPJ2W3R3MHD1TO/493-5178-1-ND/3129515; Tolerance: 20%; Voltage: 450V; Price: 0; Device Package: Radial, Can, 12.5mm
footprint CAP AL TH D12.5 L5 H21.5
pins: 1, 2

## UPJ2W4R7MHD1TO
designator C?, comment 4.7uF  (value not drawn)
CAP ALUM 4.7UF 20% 450V RADIAL; Part Number: UPJ2W4R7MHD1TO; Manufacturer: Nichicon; TemperatureRange: -25C ~ 105C; Type: Polar; Ripple Current: 55mA @ 120Hz; Value: 4.7uF; PartId: 23722; Supplier 1: Digi-Key; Supplier Part Number 1: 493-5179-1-ND; ComponentLink1Description: Datasheet; ComponentLink1URL: http://nichicon-us.com/english/products/pdfs/e-upj.pdf; ComponentLink2Description: Digi-Key Listing; ComponentLink2URL: https://www.digikey.com/product-detail/en/nichicon/UPJ2W4R7MHD1TO/493-5179-1-ND/3129516; Tolerance: 20%; Voltage: 450V; Price: 1.3; Device Package: Radial, Can, 12.5mm
footprint CAP AL TH D12.5 L5 H26.5
pins: 1, 2

## UPJ2W100MHD1TN
designator C?, comment 10uF  (value not drawn)
CAP ALUM 10UF 20% 450V RADIAL; Part Number: UPJ2W100MHD1TN; Manufacturer: Nichicon; TemperatureRange: -25C ~ 105C; Type: Polar; Ripple Current: 90mA @ 120Hz; Value: 10uF; PartId: 26786; Supplier 1: Digi-Key; Supplier Part Number 1: 493-12287-3-ND; ComponentLink1Description: Datasheet; ComponentLink1URL: http://nichicon-us.com/english/products/pdfs/e-upj.pdf; ComponentLink2Description: Digi-Key Listing; ComponentLink2URL: https://www.digikey.com/product-detail/en/nichicon/UPJ2W100MHD1TN/493-12287-3-ND/4321430; Tolerance: 20%; Voltage: 450V; Price: 0.6678; Device Package: Radial, Can, 16mm
footprint CAP AL TH D16 L7.5 H27
pins: 1, 2

## UPJ2W220MHD
designator C?, comment 22uF  (value not drawn)
CAP ALUM 22UF 20% 450V RADIAL; Part Number: UPJ2W220MHD; Manufacturer: Nichicon; TemperatureRange: -25C ~ 105C; Type: Polar; Ripple Current: 135mA; Value: 22uF; PartId: 27390; Supplier 1: Digi-Key; Supplier Part Number 1: 493-11110-ND; ComponentLink1Description: Datasheet; ComponentLink1URL: http://nichicon-us.com/english/products/pdfs/e-upj.pdf; ComponentLink2Description: Digi-Key Listing; ComponentLink2URL: https://www.digikey.com/product-detail/en/nichicon/UPJ2W220MHD/493-11110-ND/2599440; Tolerance: 20%; Voltage: 450V; Price: 1.94; Device Package: Radial, Can, 16mm
footprint CAP AL TH D16 L7.5 H37
pins: 1, 2

## UPM0J102MHD6TO
designator C?, comment 1000uF  (value not drawn)
CAP ALUM 1000UF 20% 6.3V RADIAL; Part Number: UPM0J102MHD6TO; Manufacturer: Nichicon; TemperatureRange: -55C ~ 105C; Type: Polar; Ripple Current: 770mA @ 120Hz; Impedance: 85 mOhm; Value: 1000uF; PartId: 22800; Supplier 1: Digi-Key; Supplier Part Number 1: 493-5181-1-ND; ComponentLink1Description: Datasheet; ComponentLink1URL: http://nichicon-us.com/english/products/pdfs/e-upm.pdf; ComponentLink2Description: Digi-Key Listing; ComponentLink2URL: https://www.digikey.com/product-detail/en/nichicon/UPM0J102MHD6TO/493-5181-1-ND/3129518; Tolerance: 20%; Voltage: 6.3V; Price: 0; Device Package: Radial, Can, 12.5mm
footprint CAP AL TH D12.5 L5 H17.5
pins: 1, 2

## UPM0J102MPD
designator C?, comment 1000uF  (value not drawn)
CAP ALUM 1000UF 20% 6.3V RADIAL; Part Number: UPM0J102MPD; Manufacturer: Nichicon; TemperatureRange: -55C ~ 105C; Type: Polar; Ripple Current: 820mA @ 120Hz; Impedance: 75 mOhm; Value: 1000uF; PartId: 25882; Supplier 1: Digi-Key; Supplier Part Number 1: 493-14373-ND; ComponentLink1Description: Datasheet; ComponentLink1URL: http://nichicon-us.com/english/products/pdfs/e-upm.pdf; ComponentLink2Description: Digi-Key Listing; ComponentLink2URL: https://www.digikey.com/product-detail/en/nichicon/UPM0J102MPD/493-14373-ND/2599447; Tolerance: 20%; Voltage: 6.3V; Price: 0.64; Device Package: Radial, Can, 10mm
footprint CAP AL TH D10 L5 H22
pins: 1, 2

## UPM0J102MPD1TD
designator C?, comment 1000uF  (value not drawn)
CAP ALUM 1000UF 20% 6.3V RADIAL; Part Number: UPM0J102MPD1TD; Manufacturer: Nichicon; TemperatureRange: -55C ~ 105C; Type: Polar; Ripple Current: 820mA @ 120Hz; Impedance: 75 mOhm; Value: 1000uF; PartId: 25735; Supplier 1: Digi-Key; Supplier Part Number 1: 493-5182-3-ND; ComponentLink1Description: Datasheet; ComponentLink1URL: http://nichicon-us.com/english/products/pdfs/e-upm.pdf; ComponentLink2Description: Digi-Key Listing; ComponentLink2URL: https://www.digikey.com/product-detail/en/nichicon/UPM0J102MPD1TD/493-5182-3-ND/3130187; Tolerance: 20%; Voltage: 6.3V; Price: 0.1792; Device Package: Radial, Can, 10mm
footprint CAP AL TH D10 L5 H22
pins: 1, 2

## UPM0J122MHD6TO
designator C?, comment 1200uF  (value not drawn)
CAP ALUM 1200UF 20% 6.3V RADIAL; Part Number: UPM0J122MHD6TO; Manufacturer: Nichicon; TemperatureRange: -55C ~ 105C; Type: Polar; Ripple Current: 835mA @ 120Hz; Impedance: 75 mOhm; Value: 1200uF; PartId: 22808; Supplier 1: Digi-Key; Supplier Part Number 1: 493-5184-1-ND; ComponentLink1Description: Datasheet; ComponentLink1URL: http://nichicon-us.com/english/products/pdfs/e-upm.pdf; ComponentLink2Description: Digi-Key Listing; ComponentLink2URL: https://www.digikey.com/product-detail/en/nichicon/UPM0J122MHD6TO/493-5184-1-ND/3129521; Tolerance: 20%; Voltage: 6.3V; Price: 0; Device Package: Radial, Can, 12.5mm
footprint CAP AL TH D12.5 L5 H17.5
pins: 1, 2

## UPM0J122MPD1TD
designator C?, comment 1200uF  (value not drawn)
CAP ALUM 1200UF 20% 6.3V RADIAL; Part Number: UPM0J122MPD1TD; Manufacturer: Nichicon; TemperatureRange: -55C ~ 105C; Type: Polar; Ripple Current: 930mA @ 120Hz; Impedance: 65 mOhm; Value: 1200uF; PartId: 25745; Supplier 1: Digi-Key; Supplier Part Number 1: 493-11911-3-ND; ComponentLink1Description: Datasheet; ComponentLink1URL: http://nichicon-us.com/english/products/pdfs/e-upm.pdf; ComponentLink2Description: Digi-Key Listing; ComponentLink2URL: https://www.digikey.com/product-detail/en/nichicon/UPM0J122MPD1TD/493-11911-3-ND/4321054; Tolerance: 20%; Voltage: 6.3V; Price: 0.197; Device Package: Radial, Can, 10mm
footprint CAP AL TH D10 L5 H22
pins: 1, 2

## UPM0J152MHD6TO
designator C?, comment 1500uF  (value not drawn)
CAP ALUM 1500UF 20% 6.3V RADIAL; Part Number: UPM0J152MHD6TO; Manufacturer: Nichicon; TemperatureRange: -55C ~ 105C; Type: Polar; Ripple Current: 915mA @ 120Hz; Impedance: 65 mOhm; Value: 1500uF; PartId: 22813; Supplier 1: Digi-Key; Supplier Part Number 1: 493-5186-1-ND; ComponentLink1Description: Datasheet; ComponentLink1URL: http://nichicon-us.com/english/products/pdfs/e-upm.pdf; ComponentLink2Description: Digi-Key Listing; ComponentLink2URL: https://www.digikey.com/product-detail/en/nichicon/UPM0J152MHD6TO/493-5186-1-ND/3129523; Tolerance: 20%; Voltage: 6.3V; Price: 0; Device Package: Radial, Can, 12.5mm
footprint CAP AL TH D12.5 L5 H17.5
pins: 1, 2

## UPM0J182MHD6TN
designator C?, comment 1800uF  (value not drawn)
CAP ALUM 1800UF 20% 6.3V RADIAL; Part Number: UPM0J182MHD6TN; Manufacturer: Nichicon; TemperatureRange: -55C ~ 105C; Type: Polar; Ripple Current: 1.14A @ 120Hz; Impedance: 55 mOhm; Value: 1800uF; PartId: 26265; Supplier 1: Digi-Key; Supplier Part Number 1: 493-5188-3-ND; ComponentLink1Description: Datasheet; ComponentLink1URL: http://nichicon-us.com/english/products/pdfs/e-upm.pdf; ComponentLink2Description: Digi-Key Listing; ComponentLink2URL: https://www.digikey.com/product-detail/en/nichicon/UPM0J182MHD6TN/493-5188-3-ND/3130193; Tolerance: 20%; Voltage: 6.3V; Price: 0.4454; Device Package: Radial, Can, 16mm
footprint CAP AL TH D16 L7.5 H20
pins: 1, 2

## UPM0J272MHD1TO
designator C?, comment 2700uF  (value not drawn)
CAP ALUM 2700UF 20% 6.3V RADIAL; Part Number: UPM0J272MHD1TO; Manufacturer: Nichicon; TemperatureRange: -55C ~ 105C; Type: Polar; Ripple Current: 1.53A @ 120Hz; Impedance: 38 mOhm; Value: 2700uF; PartId: 23981; Supplier 1: Digi-Key; Supplier Part Number 1: 493-12167-1-ND; ComponentLink1Description: Datasheet; ComponentLink1URL: http://nichicon-us.com/english/products/pdfs/e-upm.pdf; ComponentLink2Description: Digi-Key Listing; ComponentLink2URL: https://www.digikey.com/product-detail/en/nichicon/UPM0J272MHD1TO/493-12167-1-ND/4319532; Tolerance: 20%; Voltage: 6.3V; Price: 1.03; Device Package: Radial, Can, 12.5mm
footprint CAP AL TH D12.5 L5 H27
pins: 1, 2

## UPM0J332MHD1TO
designator C?, comment 3300uF  (value not drawn)
CAP ALUM 3300UF 20% 6.3V RADIAL; Part Number: UPM0J332MHD1TO; Manufacturer: Nichicon; TemperatureRange: -55C ~ 105C; Type: Polar; Ripple Current: 1.53A @ 120Hz; Impedance: 34 mOhm; Value: 3300uF; PartId: 23819; Supplier 1: Digi-Key; Supplier Part Number 1: 493-5192-3-ND; ComponentLink1Description: Datasheet; ComponentLink1URL: http://nichicon-us.com/english/products/pdfs/e-upm.pdf; ComponentLink2Description: Digi-Key Listing; ComponentLink2URL: https://www.digikey.com/product-detail/en/nichicon/UPM0J332MHD1TO/493-5192-3-ND/3130197; Tolerance: 20%; Voltage: 6.3V; Price: 0.4294; Device Package: Radial, Can, 12.5mm
footprint CAP AL TH D12.5 L5 H27
pins: 1, 2

## UPM0J392MHD
designator C?, comment 3900uF  (value not drawn)
CAP ALUM 3900UF 20% 6.3V RADIAL; Part Number: UPM0J392MHD; Manufacturer: Nichicon; TemperatureRange: -55C ~ 105C; Type: Polar; Ripple Current: 1.78A @ 120Hz; Impedance: 31 mOhm; Value: 3900uF; PartId: 24223; Supplier 1: Digi-Key; Supplier Part Number 1: 493-5582-ND; ComponentLink1Description: Datasheet; ComponentLink1URL: http://nichicon-us.com/english/products/pdfs/e-upm.pdf; ComponentLink2Description: Digi-Key Listing; ComponentLink2URL: https://www.digikey.com/product-detail/en/nichicon/UPM0J392MHD/493-5582-ND/2599471; Tolerance: 20%; Voltage: 6.3V; Price: 0.96; Device Package: Radial, Can, 12.5mm
footprint CAP AL TH D12.5 L5 H35.5
pins: 1, 2

## UPM0J392MHD6TN
designator C?, comment 3900uF  (value not drawn)
CAP ALUM 3900UF 20% 6.3V RADIAL; Part Number: UPM0J392MHD6TN; Manufacturer: Nichicon; TemperatureRange: -55C ~ 105C; Type: Polar; Ripple Current: 1.59A @ 120Hz; Impedance: 36 mOhm; Value: 3900uF; PartId: 26363; Supplier 1: Digi-Key; Supplier Part Number 1: 493-5193-3-ND; ComponentLink1Description: Datasheet; ComponentLink1URL: http://nichicon-us.com/english/products/pdfs/e-upm.pdf; ComponentLink2Description: Digi-Key Listing; ComponentLink2URL: https://www.digikey.com/product-detail/en/nichicon/UPM0J392MHD6TN/493-5193-3-ND/3130198; Tolerance: 20%; Voltage: 6.3V; Price: 0.5424; Device Package: Radial, Can, 16mm
footprint CAP AL TH D16 L7.5 H22
pins: 1, 2

## UPM0J471MPD6TD
designator C?, comment 470uF  (value not drawn)
CAP ALUM 470UF 20% 6.3V RADIAL; Part Number: UPM0J471MPD6TD; Manufacturer: Nichicon; TemperatureRange: -55C ~ 105C; Type: Polar; Ripple Current: 505mA @ 120Hz; Impedance: 140 mOhm; Value: 470uF; PartId: 24520; Supplier 1: Digi-Key; Supplier Part Number 1: 493-5195-3-ND; ComponentLink1Description: Datasheet; ComponentLink1URL: http://nichicon-us.com/english/products/pdfs/e-upm.pdf; ComponentLink2Description: Digi-Key Listing; ComponentLink2URL: https://www.digikey.com/product-detail/en/nichicon/UPM0J471MPD6TD/493-5195-3-ND/3130200; Tolerance: 20%; Voltage: 6.3V; Price: 0.1359; Device Package: Radial, Can, 10mm
footprint CAP AL TH D10 L5 H14.5
pins: 1, 2

## UPM0J561MPD6TD
designator C?, comment 560uF  (value not drawn)
CAP ALUM 560UF 20% 6.3V RADIAL; Part Number: UPM0J561MPD6TD; Manufacturer: Nichicon; TemperatureRange: -55C ~ 105C; Type: Polar; Ripple Current: 545mA @ 120Hz; Impedance: 130 mOhm; Value: 560uF; PartId: 24944; Supplier 1: Digi-Key; Supplier Part Number 1: 493-11815-1-ND; ComponentLink1Description: Datasheet; ComponentLink1URL: http://nichicon-us.com/english/products/pdfs/e-upm.pdf; ComponentLink2Description: Digi-Key Listing; ComponentLink2URL: https://www.digikey.com/product-detail/en/nichicon/UPM0J561MPD6TD/493-11815-1-ND/4319537; Tolerance: 20%; Voltage: 6.3V; Price: 0.51; Device Package: Radial, Can, 10mm
footprint CAP AL TH D10 L5 H14.5
pins: 1, 2

## UPM0J682MHD
designator C?, comment 6800uF  (value not drawn)
CAP ALUM 6800UF 20% 6.3V RADIAL; Part Number: UPM0J682MHD; Manufacturer: Nichicon; TemperatureRange: -55C ~ 105C; Type: Polar; Ripple Current: 2.25A @ 120Hz; Impedance: 24 mOhm; Value: 6800uF; PartId: 27041; Supplier 1: Digi-Key; Supplier Part Number 1: 493-5585-ND; ComponentLink1Description: Datasheet; ComponentLink1URL: http://nichicon-us.com/english/products/pdfs/e-upm.pdf; ComponentLink2Description: Digi-Key Listing; ComponentLink2URL: https://www.digikey.com/product-detail/en/nichicon/UPM0J682MHD/493-5585-ND/2599483; Tolerance: 20%; Voltage: 6.3V; Price: 1.54; Device Package: Radial, Can, 16mm
footprint CAP AL TH D16 L7.5 H33.5
pins: 1, 2

## UPM0J821MPD6TD
designator C?, comment 820uF  (value not drawn)
CAP ALUM 820UF 20% 6.3V RADIAL; Part Number: UPM0J821MPD6TD; Manufacturer: Nichicon; TemperatureRange: -55C ~ 105C; Type: Polar; Ripple Current: 715mA @ 120Hz; Impedance: 95 mOhm; Value: 820uF; PartId: 25049; Supplier 1: Digi-Key; Supplier Part Number 1: 493-11919-3-ND; ComponentLink1Description: Datasheet; ComponentLink1URL: http://nichicon-us.com/english/products/pdfs/e-upm.pdf; ComponentLink2Description: Digi-Key Listing; ComponentLink2URL: https://www.digikey.com/product-detail/en/nichicon/UPM0J821MPD6TD/493-11919-3-ND/4321062; Tolerance: 20%; Voltage: 6.3V; Price: 0.2; Device Package: Radial, Can, 10mm
footprint CAP AL TH D10 L5 H17.5
pins: 1, 2

## UPM1A102MHD6TO
designator C?, comment 1000uF  (value not drawn)
CAP ALUM 1000UF 20% 10V RADIAL; Part Number: UPM1A102MHD6TO; Manufacturer: Nichicon; TemperatureRange: -55C ~ 105C; Type: Polar; Ripple Current: 900mA @ 120Hz; Impedance: 65 mOhm; Value: 1000uF; PartId: 22816; Supplier 1: Digi-Key; Supplier Part Number 1: 493-12061-1-ND; ComponentLink1Description: Datasheet; ComponentLink1URL: http://nichicon-us.com/english/products/pdfs/e-upm.pdf; ComponentLink2Description: Digi-Key Listing; ComponentLink2URL: https://www.digikey.com/product-detail/en/nichicon/UPM1A102MHD6TO/493-12061-1-ND/4319542; Tolerance: 20%; Voltage: 10V; Price: 0; Device Package: Radial, Can, 12.5mm
footprint CAP AL TH D12.5 L5 H17.5
pins: 1, 2

## UPM1A102MPD
designator C?, comment 1000uF  (value not drawn)
CAP ALUM 1000UF 20% 10V RADIAL; Part Number: UPM1A102MPD; Manufacturer: Nichicon; TemperatureRange: -55C ~ 105C; Type: Polar; Ripple Current: 915mA @ 120Hz; Impedance: 60 mOhm; Value: 1000uF; PartId: 25854; Supplier 1: Digi-Key; Supplier Part Number 1: UPM1A102MPD-ND; ComponentLink1Description: Datasheet; ComponentLink1URL: http://nichicon-us.com/english/products/pdfs/e-upm.pdf; ComponentLink2Description: Digi-Key Listing; ComponentLink2URL: https://www.digikey.com/product-detail/en/nichicon/UPM1A102MPD/UPM1A102MPD-ND/2428090; Tolerance: 20%; Voltage: 10V; Price: 0.57; Device Package: Radial, Can, 10mm
footprint CAP AL TH D10 L5 H22
pins: 1, 2

## UPM1A102MPD1TD
designator C?, comment 1000uF  (value not drawn)
CAP ALUM 1000UF 20% 10V RADIAL; Part Number: UPM1A102MPD1TD; Manufacturer: Nichicon; TemperatureRange: -55C ~ 105C; Type: Polar; Ripple Current: 915mA @ 120Hz; Impedance: 60 mOhm; Value: 1000uF; PartId: 25743; Supplier 1: Digi-Key; Supplier Part Number 1: 493-11904-3-ND; ComponentLink1Description: Datasheet; ComponentLink1URL: http://nichicon-us.com/english/products/pdfs/e-upm.pdf; ComponentLink2Description: Digi-Key Listing; ComponentLink2URL: https://www.digikey.com/product-detail/en/nichicon/UPM1A102MPD1TD/493-11904-3-ND/4321047; Tolerance: 20%; Voltage: 10V; Price: 0.1956; Device Package: Radial, Can, 10mm
footprint CAP AL TH D10 L5 H22
pins: 1, 2

## UPM1A122MHD6TO
designator C?, comment 1200uF  (value not drawn)
CAP ALUM 1200UF 20% 10V RADIAL; Part Number: UPM1A122MHD6TO; Manufacturer: Nichicon; TemperatureRange: -55C ~ 105C; Type: Polar; Ripple Current: 930mA @ 120Hz; Impedance: 60 mOhm; Value: 1200uF; PartId: 22819; Supplier 1: Digi-Key; Supplier Part Number 1: 493-5201-1-ND; ComponentLink1Description: Datasheet; ComponentLink1URL: http://nichicon-us.com/english/products/pdfs/e-upm.pdf; ComponentLink2Description: Digi-Key Listing; ComponentLink2URL: https://www.digikey.com/product-detail/en/nichicon/UPM1A122MHD6TO/493-5201-1-ND/3129538; Tolerance: 20%; Voltage: 10V; Price: 0; Device Package: Radial, Can, 12.5mm
footprint CAP AL TH D12.5 L5 H17.5
pins: 1, 2

## UPM1A122MPD1TD
designator C?, comment 1200uF  (value not drawn)
CAP ALUM 1200UF 20% 10V RADIAL; Part Number: UPM1A122MPD1TD; Manufacturer: Nichicon; TemperatureRange: -55C ~ 105C; Type: Polar; Ripple Current: 1.12A @ 120Hz; Impedance: 50 mOhm; Value: 1200uF; PartId: 26004; Supplier 1: Digi-Key; Supplier Part Number 1: 493-11957-3-ND; ComponentLink1Description: Datasheet; ComponentLink1URL: http://nichicon-us.com/english/products/pdfs/e-upm.pdf; ComponentLink2Description: Digi-Key Listing; ComponentLink2URL: https://www.digikey.com/product-detail/en/nichicon/UPM1A122MPD1TD/493-11957-3-ND/4321100; Tolerance: 20%; Voltage: 10V; Price: 0.2336; Device Package: Radial, Can, 10mm
footprint CAP AL TH D10 L5 H30
pins: 1, 2

## UPM1A152MHD6TN
designator C?, comment 1500uF  (value not drawn)
CAP ALUM 1500UF 20% 10V RADIAL; Part Number: UPM1A152MHD6TN; Manufacturer: Nichicon; TemperatureRange: -55C ~ 105C; Type: Polar; Ripple Current: 1.19A @ 120Hz; Impedance: 50 mOhm; Value: 1500uF; PartId: 26266; Supplier 1: Digi-Key; Supplier Part Number 1: 493-5203-3-ND; ComponentLink1Description: Datasheet; ComponentLink1URL: http://nichicon-us.com/english/products/pdfs/e-upm.pdf; ComponentLink2Description: Digi-Key Listing; ComponentLink2URL: https://www.digikey.com/product-detail/en/nichicon/UPM1A152MHD6TN/493-5203-3-ND/3130208; Tolerance: 20%; Voltage: 10V; Price: 0.4712; Device Package: Radial, Can, 16mm
footprint CAP AL TH D16 L7.5 H20
pins: 1, 2

## UPM1A182MHD1TO
designator C?, comment 1800uF  (value not drawn)
CAP ALUM 1800UF 20% 10V RADIAL; Part Number: UPM1A182MHD1TO; Manufacturer: Nichicon; TemperatureRange: -55C ~ 105C; Type: Polar; Ripple Current: 1.32A @ 120Hz; Impedance: 39 mOhm; Value: 1800uF; PartId: 23170; Supplier 1: Digi-Key; Supplier Part Number 1: 493-12085-3-ND; ComponentLink1Description: Datasheet; ComponentLink1URL: http://nichicon-us.com/english/products/pdfs/e-upm.pdf; ComponentLink2Description: Digi-Key Listing; ComponentLink2URL: https://www.digikey.com/product-detail/en/nichicon/UPM1A182MHD1TO/493-12085-3-ND/4321228; Tolerance: 20%; Voltage: 10V; Price: 0.3427; Device Package: Radial, Can, 12.5mm
footprint CAP AL TH D12.5 L5 H22
pins: 1, 2

## UPM1A182MHD6TN
designator C?, comment 1800uF  (value not drawn)
CAP ALUM 1800UF 20% 10V RADIAL; Part Number: UPM1A182MHD6TN; Manufacturer: Nichicon; TemperatureRange: -55C ~ 105C; Type: Polar; Ripple Current: 1.27A @ 120Hz; Impedance: 44 mOhm; Value: 1800uF; PartId: 26273; Supplier 1: Digi-Key; Supplier Part Number 1: 493-5204-3-ND; ComponentLink1Description: Datasheet; ComponentLink1URL: http://nichicon-us.com/english/products/pdfs/e-upm.pdf; ComponentLink2Description: Digi-Key Listing; ComponentLink2URL: https://www.digikey.com/product-detail/en/nichicon/UPM1A182MHD6TN/493-5204-3-ND/3130209; Tolerance: 20%; Voltage: 10V; Price: 0.568; Device Package: Radial, Can, 16mm
footprint CAP AL TH D16 L7.5 H20
pins: 1, 2

## UPM1A222MHD1TO
designator C?, comment 2200uF  (value not drawn)
CAP ALUM 2200UF 20% 10V RADIAL; Part Number: UPM1A222MHD1TO; Manufacturer: Nichicon; TemperatureRange: -55C ~ 105C; Type: Polar; Ripple Current: 1.53A @ 120Hz; Impedance: 34 mOhm; Value: 2200uF; PartId: 23985; Supplier 1: Digi-Key; Supplier Part Number 1: 493-7388-1-ND; ComponentLink1Description: Datasheet; ComponentLink1URL: http://nichicon-us.com/english/products/pdfs/e-upm.pdf; ComponentLink2Description: Digi-Key Listing; ComponentLink2URL: https://www.digikey.com/product-detail/en/nichicon/UPM1A222MHD1TO/493-7388-1-ND/3768685; Tolerance: 20%; Voltage: 10V; Price: 1.03; Device Package: Radial, Can, 12.5mm
footprint CAP AL TH D12.5 L5 H27
pins: 1, 2